# Altium schematic symbol library kmilo17pet-TI_RS232.SchLib: 1272 symbols (part 16 of 37)
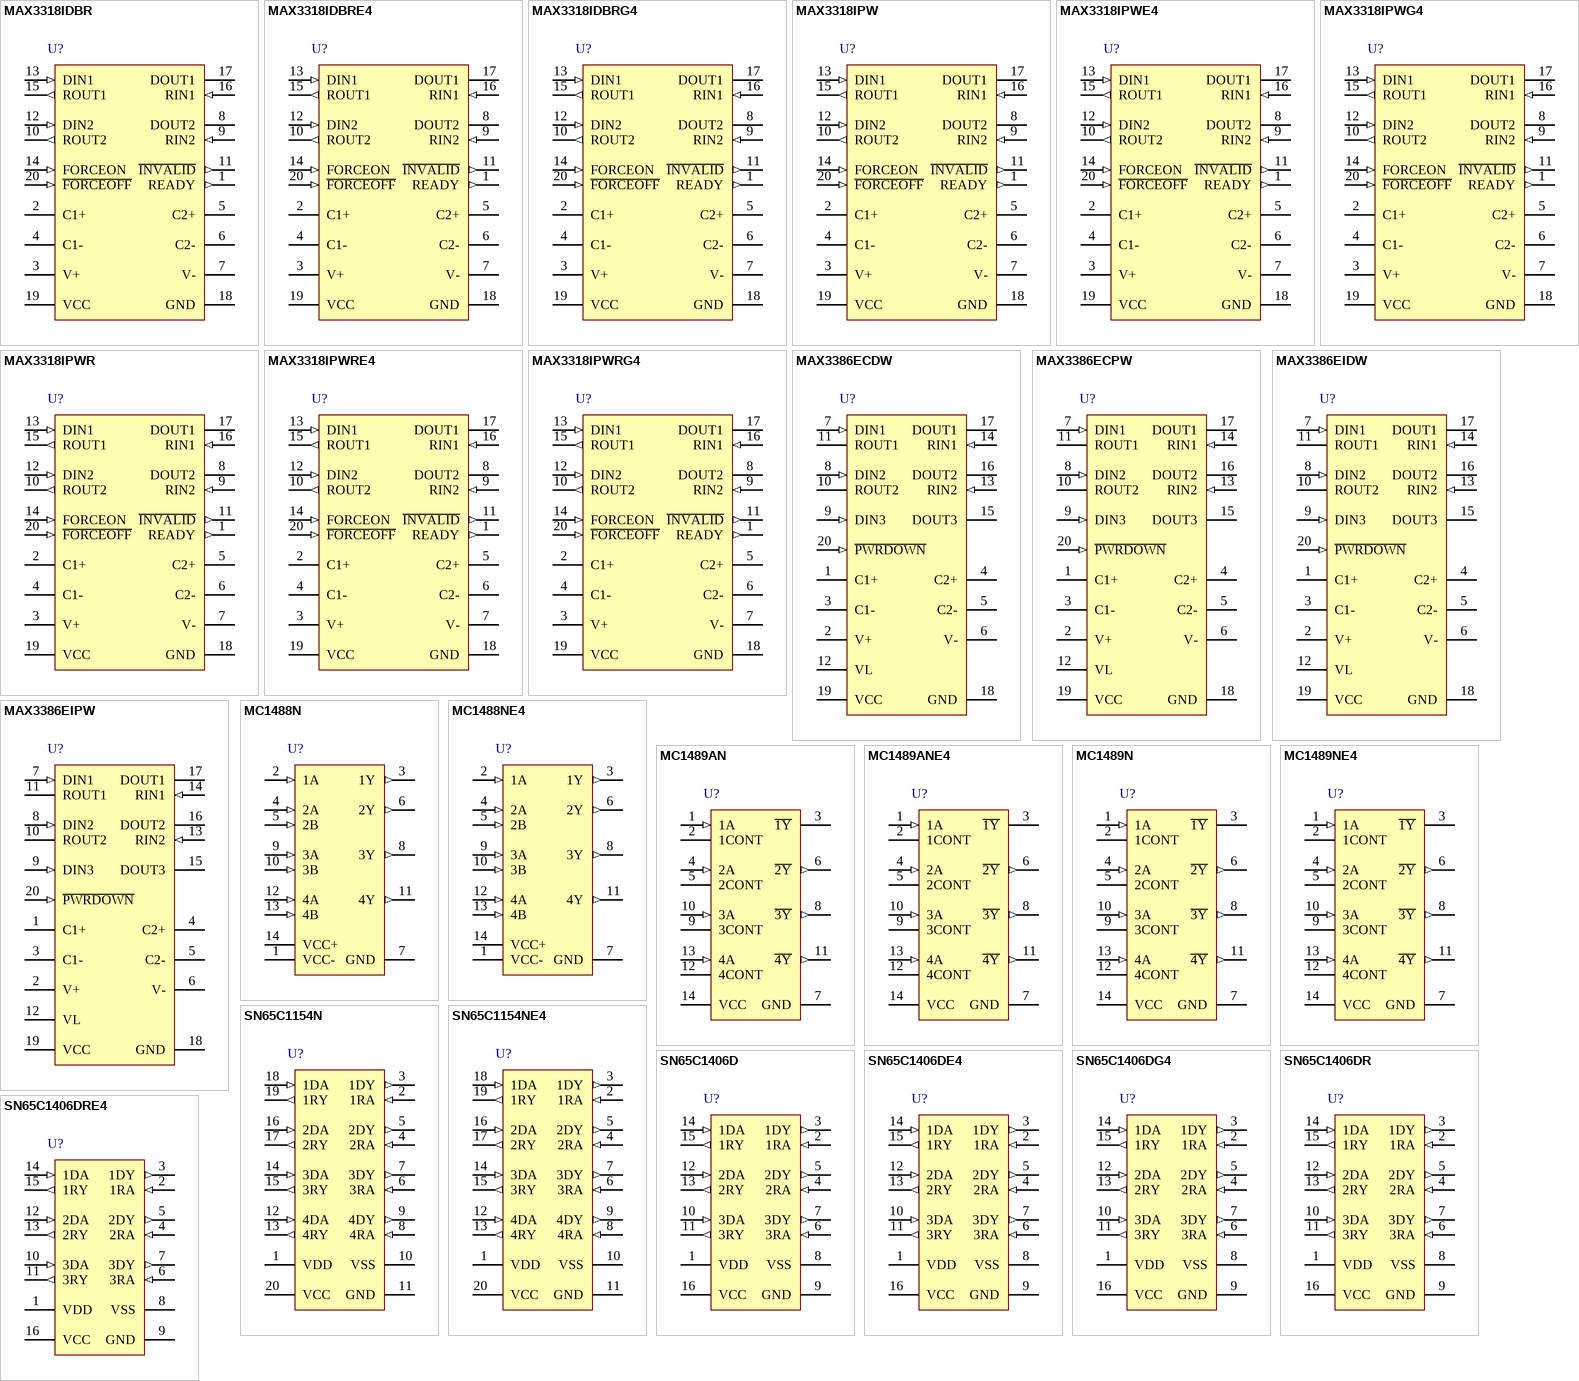
[diagram p69: symbols MAX3318IDBR to SN65C1406DRE4]

## MAX3318IDBRE4
designator U?
2.5-V 460-Kbps RS-232 Transceiver with ±15-kV ESD Protection, -40 to 85 degC, 20-Pin SSOP (DB), Green (RoHS & no Sb/Br); Drivers Per Package: 2; Supply Voltage(s)(V): 2.25 to 3.0; ESD HBM(kV): +/-15; Single Supply: TRUE; DatasheetVersion: SLLS687; PackageVersion: revE, Dec-2001; PackageReference: DB20; PackageDescription: 20-Pin Plastic Small Outline Package, 7.2 x 5.3 mm Body, 0.65 mm Pitch; SubFamily: RS-232; Receivers Per Package: 2; ICC(Max)(mA): 2; RS-232: TRUE; ComponentLink1Description: Manufacturer URL; ComponentLink1URL: www.ti.com; ComponentLink2Description: Datasheet; ComponentLink2URL: http://www.ti.com/general/docs/lit/getliterature.tsp?genericPartNumber=MAX3318&fileType=pdf; ComponentLink3Description: Package Specification; ComponentLink3URL: http://www.ti.com/litv/pdf/msso002e
footprint TI-DB20_N (SOP, 20-Leads, Body 7.2x5.3mm, Pitch 0.65mm, IPC Medium Density)
footprint TI-DB20_L (SOP, 20-Leads, Body 7.2x5.3mm, Pitch 0.65mm, IPC High Density)
footprint TI-DB20_M (SOP, 20-Leads, Body 7.2x5.3mm, Pitch 0.65mm, IPC Low Density)
pins: 1 READY (out), 2 C1+, 3 V+ (power), 4 C1-, 5 C2+, 6 C2-, 7 V- (power), 8 DOUT2 (hiz), 9 RIN2 (in), 10 ROUT2 (out), 11 ~{INVALID} (out), 12 DIN2 (in), 13 DIN1 (in), 14 FORCEON (in), 15 ROUT1 (out), 16 RIN1 (in), 17 DOUT1 (hiz), 18 GND (power), 19 VCC (power), 20 ~{FORCEOFF} (in)

## MAX3318IDBRG4
designator U?
2.5-V 460-Kbps RS-232 Transceiver with ±15-kV ESD Protection, -40 to 85 degC, 20-Pin SSOP (DB), Green (RoHS & no Sb/Br); Drivers Per Package: 2; Supply Voltage(s)(V): 2.25 to 3.0; ESD HBM(kV): +/-15; Single Supply: TRUE; DatasheetVersion: SLLS687; PackageVersion: revE, Dec-2001; PackageReference: DB20; PackageDescription: 20-Pin Plastic Small Outline Package, 7.2 x 5.3 mm Body, 0.65 mm Pitch; SubFamily: RS-232; Receivers Per Package: 2; ICC(Max)(mA): 2; RS-232: TRUE; ComponentLink1Description: Manufacturer URL; ComponentLink1URL: www.ti.com; ComponentLink2Description: Datasheet; ComponentLink2URL: http://www.ti.com/general/docs/lit/getliterature.tsp?genericPartNumber=MAX3318&fileType=pdf; ComponentLink3Description: Package Specification; ComponentLink3URL: http://www.ti.com/litv/pdf/msso002e
footprint TI-DB20_N (SOP, 20-Leads, Body 7.2x5.3mm, Pitch 0.65mm, IPC Medium Density)
footprint TI-DB20_L (SOP, 20-Leads, Body 7.2x5.3mm, Pitch 0.65mm, IPC High Density)
footprint TI-DB20_M (SOP, 20-Leads, Body 7.2x5.3mm, Pitch 0.65mm, IPC Low Density)
pins: 1 READY (out), 2 C1+, 3 V+ (power), 4 C1-, 5 C2+, 6 C2-, 7 V- (power), 8 DOUT2 (hiz), 9 RIN2 (in), 10 ROUT2 (out), 11 ~{INVALID} (out), 12 DIN2 (in), 13 DIN1 (in), 14 FORCEON (in), 15 ROUT1 (out), 16 RIN1 (in), 17 DOUT1 (hiz), 18 GND (power), 19 VCC (power), 20 ~{FORCEOFF} (in)

## MAX3318IPW
designator U?
2.5-V 460-Kbps RS-232 Transceiver with ±15-kV ESD Protection, -40 to 85 degC, 20-Pin TSSOP (PW), Green (RoHS & no Sb/Br); Drivers Per Package: 2; Supply Voltage(s)(V): 2.25 to 3.0; ESD HBM(kV): +/-15; Single Supply: TRUE; DatasheetVersion: SLLS687; PackageVersion: revG, Feb-2011; PackageReference: PW20; PackageDescription: 20-Pin Plastic Thin Small Outline Package 6.5 x 4.4 mm Body ,0.65 mm Pitch; SubFamily: RS-232; Receivers Per Package: 2; ICC(Max)(mA): 2; RS-232: TRUE; ComponentLink1Description: Manufacturer URL; ComponentLink1URL: www.ti.com; ComponentLink2Description: Datasheet; ComponentLink2URL: http://www.ti.com/general/docs/lit/getliterature.tsp?genericPartNumber=MAX3318&fileType=pdf; ComponentLink3Description: Package Specification; ComponentLink3URL: http://www.ti.com/litv/pdf/mpds362
footprint TI-PW20_N (TSOP, 20-Leads, Body 6.5x4.4mm, Pitch 0.65mm, IPC Medium Density)
footprint TI-PW20_L (TSOP, 20-Leads, Body 6.5x4.4mm, Pitch 0.65mm, IPC High Density)
footprint TI-PW20_M (TSOP, 20-Leads, Body 6.5x4.4mm, Pitch 0.65mm, IPC Low Density)
pins: 1 READY (out), 2 C1+, 3 V+ (power), 4 C1-, 5 C2+, 6 C2-, 7 V- (power), 8 DOUT2 (hiz), 9 RIN2 (in), 10 ROUT2 (out), 11 ~{INVALID} (out), 12 DIN2 (in), 13 DIN1 (in), 14 FORCEON (in), 15 ROUT1 (out), 16 RIN1 (in), 17 DOUT1 (hiz), 18 GND (power), 19 VCC (power), 20 ~{FORCEOFF} (in)

## MAX3318IPWE4
designator U?
2.5-V 460-Kbps RS-232 Transceiver with ±15-kV ESD Protection, -40 to 85 degC, 20-Pin TSSOP (PW), Green (RoHS & no Sb/Br); Drivers Per Package: 2; Supply Voltage(s)(V): 2.25 to 3.0; ESD HBM(kV): +/-15; Single Supply: TRUE; DatasheetVersion: SLLS687; PackageVersion: revG, Feb-2011; PackageReference: PW20; PackageDescription: 20-Pin Plastic Thin Small Outline Package 6.5 x 4.4 mm Body ,0.65 mm Pitch; SubFamily: RS-232; Receivers Per Package: 2; ICC(Max)(mA): 2; RS-232: TRUE; ComponentLink1Description: Manufacturer URL; ComponentLink1URL: www.ti.com; ComponentLink2Description: Datasheet; ComponentLink2URL: http://www.ti.com/general/docs/lit/getliterature.tsp?genericPartNumber=MAX3318&fileType=pdf; ComponentLink3Description: Package Specification; ComponentLink3URL: http://www.ti.com/litv/pdf/mpds362
footprint TI-PW20_N (TSOP, 20-Leads, Body 6.5x4.4mm, Pitch 0.65mm, IPC Medium Density)
footprint TI-PW20_L (TSOP, 20-Leads, Body 6.5x4.4mm, Pitch 0.65mm, IPC High Density)
footprint TI-PW20_M (TSOP, 20-Leads, Body 6.5x4.4mm, Pitch 0.65mm, IPC Low Density)
pins: 1 READY (out), 2 C1+, 3 V+ (power), 4 C1-, 5 C2+, 6 C2-, 7 V- (power), 8 DOUT2 (hiz), 9 RIN2 (in), 10 ROUT2 (out), 11 ~{INVALID} (out), 12 DIN2 (in), 13 DIN1 (in), 14 FORCEON (in), 15 ROUT1 (out), 16 RIN1 (in), 17 DOUT1 (hiz), 18 GND (power), 19 VCC (power), 20 ~{FORCEOFF} (in)

## MAX3318IPWG4
designator U?
2.5-V 460-Kbps RS-232 Transceiver with ±15-kV ESD Protection, -40 to 85 degC, 20-Pin TSSOP (PW), Green (RoHS & no Sb/Br); Drivers Per Package: 2; Supply Voltage(s)(V): 2.25 to 3.0; ESD HBM(kV): +/-15; Single Supply: TRUE; DatasheetVersion: SLLS687; PackageVersion: revG, Feb-2011; PackageReference: PW20; PackageDescription: 20-Pin Plastic Thin Small Outline Package 6.5 x 4.4 mm Body ,0.65 mm Pitch; SubFamily: RS-232; Receivers Per Package: 2; ICC(Max)(mA): 2; RS-232: TRUE; ComponentLink1Description: Manufacturer URL; ComponentLink1URL: www.ti.com; ComponentLink2Description: Datasheet; ComponentLink2URL: http://www.ti.com/general/docs/lit/getliterature.tsp?genericPartNumber=MAX3318&fileType=pdf; ComponentLink3Description: Package Specification; ComponentLink3URL: http://www.ti.com/litv/pdf/mpds362
footprint TI-PW20_N (TSOP, 20-Leads, Body 6.5x4.4mm, Pitch 0.65mm, IPC Medium Density)
footprint TI-PW20_L (TSOP, 20-Leads, Body 6.5x4.4mm, Pitch 0.65mm, IPC High Density)
footprint TI-PW20_M (TSOP, 20-Leads, Body 6.5x4.4mm, Pitch 0.65mm, IPC Low Density)
pins: 1 READY (out), 2 C1+, 3 V+ (power), 4 C1-, 5 C2+, 6 C2-, 7 V- (power), 8 DOUT2 (hiz), 9 RIN2 (in), 10 ROUT2 (out), 11 ~{INVALID} (out), 12 DIN2 (in), 13 DIN1 (in), 14 FORCEON (in), 15 ROUT1 (out), 16 RIN1 (in), 17 DOUT1 (hiz), 18 GND (power), 19 VCC (power), 20 ~{FORCEOFF} (in)

## MAX3318IPWR
designator U?
2.5-V 460-Kbps RS-232 Transceiver with ±15-kV ESD Protection, -40 to 85 degC, 20-Pin TSSOP (PW), Green (RoHS & no Sb/Br); Drivers Per Package: 2; Supply Voltage(s)(V): 2.25 to 3.0; ESD HBM(kV): +/-15; Single Supply: TRUE; DatasheetVersion: SLLS687; PackageVersion: revG, Feb-2011; PackageReference: PW20; PackageDescription: 20-Pin Plastic Thin Small Outline Package 6.5 x 4.4 mm Body ,0.65 mm Pitch; SubFamily: RS-232; Receivers Per Package: 2; ICC(Max)(mA): 2; RS-232: TRUE; ComponentLink1Description: Manufacturer URL; ComponentLink1URL: www.ti.com; ComponentLink2Description: Datasheet; ComponentLink2URL: http://www.ti.com/general/docs/lit/getliterature.tsp?genericPartNumber=MAX3318&fileType=pdf; ComponentLink3Description: Package Specification; ComponentLink3URL: http://www.ti.com/litv/pdf/mpds362
footprint TI-PW20_N (TSOP, 20-Leads, Body 6.5x4.4mm, Pitch 0.65mm, IPC Medium Density)
footprint TI-PW20_L (TSOP, 20-Leads, Body 6.5x4.4mm, Pitch 0.65mm, IPC High Density)
footprint TI-PW20_M (TSOP, 20-Leads, Body 6.5x4.4mm, Pitch 0.65mm, IPC Low Density)
pins: 1 READY (out), 2 C1+, 3 V+ (power), 4 C1-, 5 C2+, 6 C2-, 7 V- (power), 8 DOUT2 (hiz), 9 RIN2 (in), 10 ROUT2 (out), 11 ~{INVALID} (out), 12 DIN2 (in), 13 DIN1 (in), 14 FORCEON (in), 15 ROUT1 (out), 16 RIN1 (in), 17 DOUT1 (hiz), 18 GND (power), 19 VCC (power), 20 ~{FORCEOFF} (in)

## MAX3318IPWRE4
designator U?
2.5-V 460-Kbps RS-232 Transceiver with ±15-kV ESD Protection, -40 to 85 degC, 20-Pin TSSOP (PW), Green (RoHS & no Sb/Br); Drivers Per Package: 2; Supply Voltage(s)(V): 2.25 to 3.0; ESD HBM(kV): +/-15; Single Supply: TRUE; DatasheetVersion: SLLS687; PackageVersion: revG, Feb-2011; PackageReference: PW20; PackageDescription: 20-Pin Plastic Thin Small Outline Package 6.5 x 4.4 mm Body ,0.65 mm Pitch; SubFamily: RS-232; Receivers Per Package: 2; ICC(Max)(mA): 2; RS-232: TRUE; ComponentLink1Description: Manufacturer URL; ComponentLink1URL: www.ti.com; ComponentLink2Description: Datasheet; ComponentLink2URL: http://www.ti.com/general/docs/lit/getliterature.tsp?genericPartNumber=MAX3318&fileType=pdf; ComponentLink3Description: Package Specification; ComponentLink3URL: http://www.ti.com/litv/pdf/mpds362
footprint TI-PW20_N (TSOP, 20-Leads, Body 6.5x4.4mm, Pitch 0.65mm, IPC Medium Density)
footprint TI-PW20_L (TSOP, 20-Leads, Body 6.5x4.4mm, Pitch 0.65mm, IPC High Density)
footprint TI-PW20_M (TSOP, 20-Leads, Body 6.5x4.4mm, Pitch 0.65mm, IPC Low Density)
pins: 1 READY (out), 2 C1+, 3 V+ (power), 4 C1-, 5 C2+, 6 C2-, 7 V- (power), 8 DOUT2 (hiz), 9 RIN2 (in), 10 ROUT2 (out), 11 ~{INVALID} (out), 12 DIN2 (in), 13 DIN1 (in), 14 FORCEON (in), 15 ROUT1 (out), 16 RIN1 (in), 17 DOUT1 (hiz), 18 GND (power), 19 VCC (power), 20 ~{FORCEOFF} (in)

## MAX3318IPWRG4
designator U?
2.5-V 460-Kbps RS-232 Transceiver with ±15-kV ESD Protection, -40 to 85 degC, 20-Pin TSSOP (PW), Green (RoHS & no Sb/Br); Drivers Per Package: 2; Supply Voltage(s)(V): 2.25 to 3.0; ESD HBM(kV): +/-15; Single Supply: TRUE; DatasheetVersion: SLLS687; PackageVersion: revG, Feb-2011; PackageReference: PW20; PackageDescription: 20-Pin Plastic Thin Small Outline Package 6.5 x 4.4 mm Body ,0.65 mm Pitch; SubFamily: RS-232; Receivers Per Package: 2; ICC(Max)(mA): 2; RS-232: TRUE; ComponentLink1Description: Manufacturer URL; ComponentLink1URL: www.ti.com; ComponentLink2Description: Datasheet; ComponentLink2URL: http://www.ti.com/general/docs/lit/getliterature.tsp?genericPartNumber=MAX3318&fileType=pdf; ComponentLink3Description: Package Specification; ComponentLink3URL: http://www.ti.com/litv/pdf/mpds362
footprint TI-PW20_N (TSOP, 20-Leads, Body 6.5x4.4mm, Pitch 0.65mm, IPC Medium Density)
footprint TI-PW20_L (TSOP, 20-Leads, Body 6.5x4.4mm, Pitch 0.65mm, IPC High Density)
footprint TI-PW20_M (TSOP, 20-Leads, Body 6.5x4.4mm, Pitch 0.65mm, IPC Low Density)
pins: 1 READY (out), 2 C1+, 3 V+ (power), 4 C1-, 5 C2+, 6 C2-, 7 V- (power), 8 DOUT2 (hiz), 9 RIN2 (in), 10 ROUT2 (out), 11 ~{INVALID} (out), 12 DIN2 (in), 13 DIN1 (in), 14 FORCEON (in), 15 ROUT1 (out), 16 RIN1 (in), 17 DOUT1 (hiz), 18 GND (power), 19 VCC (power), 20 ~{FORCEOFF} (in)

## MAX3386ECDW
designator U?
RS-232 Transceiver with Split Supply Pin for Logic Side, 0 to 70 degC, 20-Pin SOIC (DW), Green (RoHS & no Sb/Br); Drivers Per Package: 3; Receivers Per Package: 2; Supply Voltage(s)(V): 3.3 or 5.0 & 2.5; ESD HBM(kV): +/-15; ICC(Max)(mA): 1; RS-232: TRUE; DatasheetVersion: SLLS659B; PackageVersion: revG, Jan-2011; PackageReference: DW20; PackageDescription: 20-Pin Plastic Small Outline Integrated Circuit, 12.8 x 7.5 mm, Pitch 1.27 mm Pitch; SubFamily: RS-232; IEC-61000-4-2 SUPPORT: TRUE; ComponentLink1Description: Manufacturer URL; ComponentLink1URL: www.ti.com; ComponentLink2Description: Datasheet; ComponentLink2URL: http://www.ti.com/general/docs/lit/getliterature.tsp?genericPartNumber=MAX3386E&fileType=pdf; ComponentLink3Description: Package Specification; ComponentLink3URL: http://www.ti.com/litv/pdf/mpds173a
footprint TI-DW20_N (SOIC, 20-Leads, Body 12.8x7.5mm, Pitch 1.27mm, IPC Medium Density)
footprint TI-DW20_L (SOIC, 20-Leads, Body 12.8x7.5mm, Pitch 1.27mm, IPC High Density)
footprint TI-DW20_M (SOIC, 20-Leads, Body 12.8x7.5mm, Pitch 1.27mm, IPC Low Density)
pins: 1 C1+ "Positive terminal of the voltage-doubler charge-pump capacitor", 2 V+ (power) "5.5-V supply generated by the charge pump", 3 C1- "Negative terminal of the voltage-doubler charge-pump capacitor", 4 C2+ "Positive terminal of the inverting charge-pump capacitor", 5 C2- "Negative terminal of the inverting charge-pump capacitor", 6 V- (power) "-5.5-V supply generated by the charge pump", 7 DIN1 (in) "Driver inputs", 8 DIN2 (in) "Driver inputs", 9 DIN3 (in) "Driver inputs", 10 ROUT2 (hiz) "Receiver outputs. Swing between 0 and VL", 11 ROUT1 (hiz) "Receiver outputs. Swing between 0 and VL", 12 VL (power) "Logic-level supply. All CMOS inputs and outputs are referenced to this supply.", 13 RIN2 (in) "RS-232 receiver inputs", 14 RIN1 (in) "RS-232 receiver inputs", 15 DOUT3 (hiz) "RS-232 driver outputs", 16 DOUT2 (hiz) "RS-232 driver outputs", 17 DOUT1 (hiz) "RS-232 driver outputs", 18 GND (power) "Ground", 19 VCC (power) "3-V to 5.5-V supply voltage", 20 ~{PWRDOWN} (in) "Powerdown input"

## MAX3386ECPW
designator U?
RS-232 Transceiver with Split Supply Pin for Logic Side, 0 to 70 degC, 20-Pin TSSOP (PW), Green (RoHS & no Sb/Br); Drivers Per Package: 3; Receivers Per Package: 2; Supply Voltage(s)(V): 3.3 or 5.0 & 2.5; ESD HBM(kV): +/-15; ICC(Max)(mA): 1; RS-232: TRUE; DatasheetVersion: SLLS659B; PackageVersion: revG, Feb-2011; PackageReference: PW20; PackageDescription: 20-Pin Plastic Thin Small Outline Package 6.5 x 4.4 mm Body ,0.65 mm Pitch; SubFamily: RS-232; IEC-61000-4-2 SUPPORT: TRUE; ComponentLink1Description: Manufacturer URL; ComponentLink1URL: www.ti.com; ComponentLink2Description: Datasheet; ComponentLink2URL: http://www.ti.com/general/docs/lit/getliterature.tsp?genericPartNumber=MAX3386E&fileType=pdf; ComponentLink3Description: Package Specification; ComponentLink3URL: http://www.ti.com/litv/pdf/mpds362
footprint TI-PW20_N (TSOP, 20-Leads, Body 6.5x4.4mm, Pitch 0.65mm, IPC Medium Density)
footprint TI-PW20_L (TSOP, 20-Leads, Body 6.5x4.4mm, Pitch 0.65mm, IPC High Density)
footprint TI-PW20_M (TSOP, 20-Leads, Body 6.5x4.4mm, Pitch 0.65mm, IPC Low Density)
pins: 1 C1+ "Positive terminal of the voltage-doubler charge-pump capacitor", 2 V+ (power) "5.5-V supply generated by the charge pump", 3 C1- "Negative terminal of the voltage-doubler charge-pump capacitor", 4 C2+ "Positive terminal of the inverting charge-pump capacitor", 5 C2- "Negative terminal of the inverting charge-pump capacitor", 6 V- (power) "-5.5-V supply generated by the charge pump", 7 DIN1 (in) "Driver inputs", 8 DIN2 (in) "Driver inputs", 9 DIN3 (in) "Driver inputs", 10 ROUT2 (hiz) "Receiver outputs. Swing between 0 and VL", 11 ROUT1 (hiz) "Receiver outputs. Swing between 0 and VL", 12 VL (power) "Logic-level supply. All CMOS inputs and outputs are referenced to this supply.", 13 RIN2 (in) "RS-232 receiver inputs", 14 RIN1 (in) "RS-232 receiver inputs", 15 DOUT3 (hiz) "RS-232 driver outputs", 16 DOUT2 (hiz) "RS-232 driver outputs", 17 DOUT1 (hiz) "RS-232 driver outputs", 18 GND (power) "Ground", 19 VCC (power) "3-V to 5.5-V supply voltage", 20 ~{PWRDOWN} (in) "Powerdown input. L = Powerdown H = Normal operation"

## MAX3386EIDW
designator U?
RS-232 Transceiver with Split Supply Pin for Logic Side, -40 to 85 degC, 20-Pin SOIC (DW), Green (RoHS & no Sb/Br); Drivers Per Package: 3; Receivers Per Package: 2; Supply Voltage(s)(V): 3.3 or 5.0 & 2.5; ESD HBM(kV): +/-15; ICC(Max)(mA): 1; RS-232: TRUE; DatasheetVersion: SLLS659B; PackageVersion: revG, Jan-2011; PackageReference: DW20; PackageDescription: 20-Pin Plastic Small Outline Integrated Circuit, 12.8 x 7.5 mm, Pitch 1.27 mm Pitch; SubFamily: RS-232; IEC-61000-4-2 SUPPORT: TRUE; ComponentLink1Description: Manufacturer URL; ComponentLink1URL: www.ti.com; ComponentLink2Description: Datasheet; ComponentLink2URL: http://www.ti.com/general/docs/lit/getliterature.tsp?genericPartNumber=MAX3386E&fileType=pdf; ComponentLink3Description: Package Specification; ComponentLink3URL: http://www.ti.com/litv/pdf/mpds173a
footprint TI-DW20_N (SOIC, 20-Leads, Body 12.8x7.5mm, Pitch 1.27mm, IPC Medium Density)
footprint TI-DW20_L (SOIC, 20-Leads, Body 12.8x7.5mm, Pitch 1.27mm, IPC High Density)
footprint TI-DW20_M (SOIC, 20-Leads, Body 12.8x7.5mm, Pitch 1.27mm, IPC Low Density)
pins: 1 C1+ "Positive terminal of the voltage-doubler charge-pump capacitor", 2 V+ (power) "5.5-V supply generated by the charge pump", 3 C1- "Negative terminal of the voltage-doubler charge-pump capacitor", 4 C2+ "Positive terminal of the inverting charge-pump capacitor", 5 C2- "Negative terminal of the inverting charge-pump capacitor", 6 V- (power) "-5.5-V supply generated by the charge pump", 7 DIN1 (in) "Driver inputs", 8 DIN2 (in) "Driver inputs", 9 DIN3 (in) "Driver inputs", 10 ROUT2 (hiz) "Receiver outputs. Swing between 0 and VL", 11 ROUT1 (hiz) "Receiver outputs. Swing between 0 and VL", 12 VL (power) "Logic-level supply. All CMOS inputs and outputs are referenced to this supply.", 13 RIN2 (in) "RS-232 receiver inputs", 14 RIN1 (in) "RS-232 receiver inputs", 15 DOUT3 (hiz) "RS-232 driver outputs", 16 DOUT2 (hiz) "RS-232 driver outputs", 17 DOUT1 (hiz) "RS-232 driver outputs", 18 GND (power) "Ground", 19 VCC (power) "3-V to 5.5-V supply voltage", 20 ~{PWRDOWN} (in) "Powerdown input"

## MAX3386EIPW
designator U?
RS-232 Transceiver with Split Supply Pin for Logic Side, -40 to 85 degC, 20-Pin TSSOP (PW), Green (RoHS & no Sb/Br); Drivers Per Package: 3; Receivers Per Package: 2; Supply Voltage(s)(V): 3.3 or 5.0 & 2.5; ESD HBM(kV): +/-15; ICC(Max)(mA): 1; RS-232: TRUE; DatasheetVersion: SLLS659B; PackageVersion: revG, Feb-2011; PackageReference: PW20; PackageDescription: 20-Pin Plastic Thin Small Outline Package 6.5 x 4.4 mm Body ,0.65 mm Pitch; SubFamily: RS-232; IEC-61000-4-2 SUPPORT: TRUE; ComponentLink1Description: Manufacturer URL; ComponentLink1URL: www.ti.com; ComponentLink2Description: Datasheet; ComponentLink2URL: http://www.ti.com/general/docs/lit/getliterature.tsp?genericPartNumber=MAX3386E&fileType=pdf; ComponentLink3Description: Package Specification; ComponentLink3URL: http://www.ti.com/litv/pdf/mpds362
footprint TI-PW20_N (TSOP, 20-Leads, Body 6.5x4.4mm, Pitch 0.65mm, IPC Medium Density)
footprint TI-PW20_L (TSOP, 20-Leads, Body 6.5x4.4mm, Pitch 0.65mm, IPC High Density)
footprint TI-PW20_M (TSOP, 20-Leads, Body 6.5x4.4mm, Pitch 0.65mm, IPC Low Density)
pins: 1 C1+ "Positive terminal of the voltage-doubler charge-pump capacitor", 2 V+ (power) "5.5-V supply generated by the charge pump", 3 C1- "Negative terminal of the voltage-doubler charge-pump capacitor", 4 C2+ "Positive terminal of the inverting charge-pump capacitor", 5 C2- "Negative terminal of the inverting charge-pump capacitor", 6 V- (power) "-5.5-V supply generated by the charge pump", 7 DIN1 (in) "Driver inputs", 8 DIN2 (in) "Driver inputs", 9 DIN3 (in) "Driver inputs", 10 ROUT2 (hiz) "Receiver outputs. Swing between 0 and VL", 11 ROUT1 (hiz) "Receiver outputs. Swing between 0 and VL", 12 VL (power) "Logic-level supply. All CMOS inputs and outputs are referenced to this supply.", 13 RIN2 (in) "RS-232 receiver inputs", 14 RIN1 (in) "RS-232 receiver inputs", 15 DOUT3 (hiz) "RS-232 driver outputs", 16 DOUT2 (hiz) "RS-232 driver outputs", 17 DOUT1 (hiz) "RS-232 driver outputs", 18 GND (power) "Ground", 19 VCC (power) "3-V to 5.5-V supply voltage", 20 ~{PWRDOWN} (in) "Powerdown input. L = Powerdown H = Normal operation"

## MC1488N
designator U?
Quadruple Line Driver, 0 to 70 degC, 14-Pin PDIP (N), Pb-Free (RoHS); SubFamily: RS-232; Drivers Per Package: 4; Supply Voltage(s)(V): +/-9.0; ICC(Max)(mA): +/-34; RS-232: TRUE; DatasheetVersion: SLLS094C; PackageVersion: revE, Dec-2002; PackageReference: N14; PackageDescription: 14-Pin Plastic Dual-In-Line Package, Row Spacing 7.62 mm, Pitch 2.54 mm; ComponentLink1Description: Manufacturer URL; ComponentLink1URL: www.ti.com; ComponentLink2Description: Datasheet; ComponentLink2URL: http://www.ti.com/general/docs/lit/getliterature.tsp?genericPartNumber=MC1488&fileType=pdf; ComponentLink3Description: Package Specification; ComponentLink3URL: http://www.ti.com/litv/pdf/mpdi002c
footprint TI-N14 (DIP, 14-Leads, Row Spacing 7.62mm, Pitch 2.54mm, Body 19.3x6.4mm)
pins: 1 VCC- (power), 2 1A (in), 3 1Y (out), 4 2A (in), 5 2B (in), 6 2Y (out), 7 GND (power), 8 3Y (out), 9 3A (in), 10 3B (in), 11 4Y (out), 12 4A (in), 13 4B (in), 14 VCC+ (power)

## MC1488NE4
designator U?
Quadruple Line Driver, 0 to 70 degC, 14-Pin PDIP (N), Pb-Free (RoHS); SubFamily: RS-232; Drivers Per Package: 4; Supply Voltage(s)(V): +/-9.0; ICC(Max)(mA): +/-34; RS-232: TRUE; DatasheetVersion: SLLS094C; PackageVersion: revE, Dec-2002; PackageReference: N14; PackageDescription: 14-Pin Plastic Dual-In-Line Package, Row Spacing 7.62 mm, Pitch 2.54 mm; ComponentLink1Description: Manufacturer URL; ComponentLink1URL: www.ti.com; ComponentLink2Description: Datasheet; ComponentLink2URL: http://www.ti.com/general/docs/lit/getliterature.tsp?genericPartNumber=MC1488&fileType=pdf; ComponentLink3Description: Package Specification; ComponentLink3URL: http://www.ti.com/litv/pdf/mpdi002c
footprint TI-N14 (DIP, 14-Leads, Row Spacing 7.62mm, Pitch 2.54mm, Body 19.3x6.4mm)
pins: 1 VCC- (power), 2 1A (in), 3 1Y (out), 4 2A (in), 5 2B (in), 6 2Y (out), 7 GND (power), 8 3Y (out), 9 3A (in), 10 3B (in), 11 4Y (out), 12 4A (in), 13 4B (in), 14 VCC+ (power)

## MC1489AN
designator U?
Quadruple Line Receiver, 0 to 70 degC, 14-Pin PDIP (N), Pb-Free (RoHS); SubFamily: RS-232; Receivers Per Package: 4; Supply Voltage(s)(V): 5; ICC(Max)(mA): 26; Single Supply: TRUE; DatasheetVersion: SLLS095D; PackageVersion: revE, Dec-2002; PackageReference: N14; PackageDescription: 14-Pin Plastic Dual-In-Line Package, Row Spacing 7.62 mm, Pitch 2.54 mm; RS-232: TRUE; ComponentLink1Description: Manufacturer URL; ComponentLink1URL: www.ti.com; ComponentLink2Description: Datasheet; ComponentLink2URL: http://www.ti.com/general/docs/lit/getliterature.tsp?genericPartNumber=MC1489A&fileType=pdf; ComponentLink3Description: Package Specification; ComponentLink3URL: http://www.ti.com/litv/pdf/mpdi002c
footprint TI-N14 (DIP, 14-Leads, Row Spacing 7.62mm, Pitch 2.54mm, Body 19.3x6.4mm)
pins: 1 1A (in), 2 1CONT, 3 ~{1Y} (oc), 4 2A (in), 5 2CONT, 6 ~{2Y} (out), 7 GND (power), 8 ~{3Y} (out), 9 3CONT, 10 3A (in), 11 ~{4Y} (out), 12 4CONT, 13 4A (in), 14 VCC (power)

## MC1489ANE4
designator U?
Quadruple Line Receiver, 0 to 70 degC, 14-Pin PDIP (N), Pb-Free (RoHS); SubFamily: RS-232; Receivers Per Package: 4; Supply Voltage(s)(V): 5; ICC(Max)(mA): 26; Single Supply: TRUE; DatasheetVersion: SLLS095D; PackageVersion: revE, Dec-2002; PackageReference: N14; PackageDescription: 14-Pin Plastic Dual-In-Line Package, Row Spacing 7.62 mm, Pitch 2.54 mm; RS-232: TRUE; ComponentLink1Description: Manufacturer URL; ComponentLink1URL: www.ti.com; ComponentLink2Description: Datasheet; ComponentLink2URL: http://www.ti.com/general/docs/lit/getliterature.tsp?genericPartNumber=MC1489A&fileType=pdf; ComponentLink3Description: Package Specification; ComponentLink3URL: http://www.ti.com/litv/pdf/mpdi002c
footprint TI-N14 (DIP, 14-Leads, Row Spacing 7.62mm, Pitch 2.54mm, Body 19.3x6.4mm)
pins: 1 1A (in), 2 1CONT, 3 ~{1Y} (oc), 4 2A (in), 5 2CONT, 6 ~{2Y} (out), 7 GND (power), 8 ~{3Y} (out), 9 3CONT, 10 3A (in), 11 ~{4Y} (out), 12 4CONT, 13 4A (in), 14 VCC (power)

## MC1489N
designator U?
Quadruple Line Receiver, 0 to 70 degC, 14-Pin PDIP (N), Pb-Free (RoHS); SubFamily: RS-232; Receivers Per Package: 4; Supply Voltage(s)(V): 5; ICC(Max)(mA): 26; Single Supply: TRUE; DatasheetVersion: SLLS095D; PackageVersion: revE, Dec-2002; PackageReference: N14; PackageDescription: 14-Pin Plastic Dual-In-Line Package, Row Spacing 7.62 mm, Pitch 2.54 mm; RS-232: TRUE; ComponentLink1Description: Manufacturer URL; ComponentLink1URL: www.ti.com; ComponentLink2Description: Datasheet; ComponentLink2URL: http://www.ti.com/general/docs/lit/getliterature.tsp?genericPartNumber=MC1489&fileType=pdf; ComponentLink3Description: Package Specification; ComponentLink3URL: http://www.ti.com/litv/pdf/mpdi002c
footprint TI-N14 (DIP, 14-Leads, Row Spacing 7.62mm, Pitch 2.54mm, Body 19.3x6.4mm)
pins: 1 1A (in), 2 1CONT, 3 ~{1Y} (oc), 4 2A (in), 5 2CONT, 6 ~{2Y} (out), 7 GND (power), 8 ~{3Y} (out), 9 3CONT, 10 3A (in), 11 ~{4Y} (out), 12 4CONT, 13 4A (in), 14 VCC (power)

## MC1489NE4
designator U?
Quadruple Line Receiver, 0 to 70 degC, 14-Pin PDIP (N), Pb-Free (RoHS); SubFamily: RS-232; Receivers Per Package: 4; Supply Voltage(s)(V): 5; ICC(Max)(mA): 26; Single Supply: TRUE; DatasheetVersion: SLLS095D; PackageVersion: revE, Dec-2002; PackageReference: N14; PackageDescription: 14-Pin Plastic Dual-In-Line Package, Row Spacing 7.62 mm, Pitch 2.54 mm; RS-232: TRUE; ComponentLink1Description: Manufacturer URL; ComponentLink1URL: www.ti.com; ComponentLink2Description: Datasheet; ComponentLink2URL: http://www.ti.com/general/docs/lit/getliterature.tsp?genericPartNumber=MC1489&fileType=pdf; ComponentLink3Description: Package Specification; ComponentLink3URL: http://www.ti.com/litv/pdf/mpdi002c
footprint TI-N14 (DIP, 14-Leads, Row Spacing 7.62mm, Pitch 2.54mm, Body 19.3x6.4mm)
pins: 1 1A (in), 2 1CONT, 3 ~{1Y} (oc), 4 2A (in), 5 2CONT, 6 ~{2Y} (out), 7 GND (power), 8 ~{3Y} (out), 9 3CONT, 10 3A (in), 11 ~{4Y} (out), 12 4CONT, 13 4A (in), 14 VCC (power)

## SN65C1154N
designator U?
Quadruple Low-Power Driver / Receiver, -40 to 85 degC, 20-Pin PDIP (N); SubFamily: RS-232; Drivers Per Package: 4; Supply Voltage(s)(V): +/-12.0 & 5.0; ICC(Max)(mA): +/-0.25 & 2.0; RS-232: TRUE; DatasheetVersion: SLLS151D; PackageVersion: revE, Dec-2002; PackageReference: N20; PackageDescription: 20-Pin Plastic Dual-In-Line Package, Row Spacing 7.62 mm, Pitch 2.54 mm; Receivers Per Package: 4; ComponentLink1Description: Manufacturer URL; ComponentLink1URL: www.ti.com; ComponentLink2Description: Datasheet; ComponentLink2URL: http://www.ti.com/general/docs/lit/getliterature.tsp?genericPartNumber=SN65C1154&fileType=pdf; ComponentLink3Description: Package Specification; ComponentLink3URL: http://www.ti.com/litv/pdf/mpdi002c
footprint TI-N20 (DIP, 20-Leads, Row Spacing 7.62mm, Pitch 2.54mm, Body 25.4x6.4mm)
pins: 1 VDD (power), 2 1RA (in), 3 1DY (out), 4 2RA (in), 5 2DY (out), 6 3RA (in), 7 3DY (out), 8 4RA (in), 9 4DY (out), 10 VSS (power), 11 GND (power), 12 4DA (in), 13 4RY (out), 14 3DA (in), 15 3RY (out), 16 2DA (in), 17 2RY (out), 18 1DA (in), 19 1RY (out), 20 VCC (power)

## SN65C1154NE4
designator U?
Quadruple Low-Power Driver / Receiver, -40 to 85 degC, 20-Pin PDIP (N); SubFamily: RS-232; Drivers Per Package: 4; Supply Voltage(s)(V): +/-12.0 & 5.0; ICC(Max)(mA): +/-0.25 & 2.0; RS-232: TRUE; DatasheetVersion: SLLS151D; PackageVersion: revE, Dec-2002; PackageReference: N20; PackageDescription: 20-Pin Plastic Dual-In-Line Package, Row Spacing 7.62 mm, Pitch 2.54 mm; Receivers Per Package: 4; ComponentLink1Description: Manufacturer URL; ComponentLink1URL: www.ti.com; ComponentLink2Description: Datasheet; ComponentLink2URL: http://www.ti.com/general/docs/lit/getliterature.tsp?genericPartNumber=SN65C1154&fileType=pdf; ComponentLink3Description: Package Specification; ComponentLink3URL: http://www.ti.com/litv/pdf/mpdi002c
footprint TI-N20 (DIP, 20-Leads, Row Spacing 7.62mm, Pitch 2.54mm, Body 25.4x6.4mm)
pins: 1 VDD (power), 2 1RA (in), 3 1DY (out), 4 2RA (in), 5 2DY (out), 6 3RA (in), 7 3DY (out), 8 4RA (in), 9 4DY (out), 10 VSS (power), 11 GND (power), 12 4DA (in), 13 4RY (out), 14 3DA (in), 15 3RY (out), 16 2DA (in), 17 2RY (out), 18 1DA (in), 19 1RY (out), 20 VCC (power)

## SN65C1406D
designator U?
Triple Low-Power Driver / Receiver, -40 to 85 degC, 16-Pin SOIC (D), Green (RoHS & no Sb/Br); SubFamily: RS-232; Drivers Per Package: 3; Supply Voltage(s)(V): +/-12.0 & 5.0; ICC(Max)(mA): +/-0.25 & 2.0; RS-232: TRUE; DatasheetVersion: SLLS148E; PackageVersion: revM, Jun-2011; PackageReference: D16; PackageDescription: 16-Pin Plastic Small Outline Integrated Circuit, 9.9 x 3.9 mm, Pitch 1.27 mm Pitch; Receivers Per Package: 3; ComponentLink1Description: Manufacturer URL; ComponentLink1URL: www.ti.com; ComponentLink2Description: Datasheet; ComponentLink2URL: http://www.ti.com/general/docs/lit/getliterature.tsp?genericPartNumber=SN65C1406&fileType=pdf; ComponentLink3Description: Package Specification; ComponentLink3URL: http://www.ti.com/litv/pdf/mpds178g
footprint TI-D16_N (SOIC, 16-Leads, Body 9.9x3.9mm, Pitch 1.27mm, IPC Medium Density)
footprint TI-D16_L (SOIC, 16-Leads, Body 9.9x3.9mm, Pitch 1.27mm, IPC High Density)
footprint TI-D16_M (SOIC, 16-Leads, Body 9.9x3.9mm, Pitch 1.27mm, IPC Low Density)
pins: 1 VDD (power), 2 1RA (in), 3 1DY (out), 4 2RA (in), 5 2DY (out), 6 3RA (in), 7 3DY (out), 8 VSS (power), 9 GND (power), 10 3DA (in), 11 3RY (out), 12 2DA (in), 13 2RY (out), 14 1DA (in), 15 1RY (out), 16 VCC (power)

## SN65C1406DE4
designator U?
Triple Low-Power Driver / Receiver, -40 to 85 degC, 16-Pin SOIC (D), Green (RoHS & no Sb/Br); SubFamily: RS-232; Drivers Per Package: 3; Supply Voltage(s)(V): +/-12.0 & 5.0; ICC(Max)(mA): +/-0.25 & 2.0; RS-232: TRUE; DatasheetVersion: SLLS148E; PackageVersion: revM, Jun-2011; PackageReference: D16; PackageDescription: 16-Pin Plastic Small Outline Integrated Circuit, 9.9 x 3.9 mm, Pitch 1.27 mm Pitch; Receivers Per Package: 3; ComponentLink1Description: Manufacturer URL; ComponentLink1URL: www.ti.com; ComponentLink2Description: Datasheet; ComponentLink2URL: http://www.ti.com/general/docs/lit/getliterature.tsp?genericPartNumber=SN65C1406&fileType=pdf; ComponentLink3Description: Package Specification; ComponentLink3URL: http://www.ti.com/litv/pdf/mpds178g
footprint TI-D16_N (SOIC, 16-Leads, Body 9.9x3.9mm, Pitch 1.27mm, IPC Medium Density)
footprint TI-D16_L (SOIC, 16-Leads, Body 9.9x3.9mm, Pitch 1.27mm, IPC High Density)
footprint TI-D16_M (SOIC, 16-Leads, Body 9.9x3.9mm, Pitch 1.27mm, IPC Low Density)
pins: 1 VDD (power), 2 1RA (in), 3 1DY (out), 4 2RA (in), 5 2DY (out), 6 3RA (in), 7 3DY (out), 8 VSS (power), 9 GND (power), 10 3DA (in), 11 3RY (out), 12 2DA (in), 13 2RY (out), 14 1DA (in), 15 1RY (out), 16 VCC (power)

## SN65C1406DG4
designator U?
Triple Low-Power Driver / Receiver, -40 to 85 degC, 16-Pin SOIC (D), Green (RoHS & no Sb/Br); SubFamily: RS-232; Drivers Per Package: 3; Supply Voltage(s)(V): +/-12.0 & 5.0; ICC(Max)(mA): +/-0.25 & 2.0; RS-232: TRUE; DatasheetVersion: SLLS148E; PackageVersion: revM, Jun-2011; PackageReference: D16; PackageDescription: 16-Pin Plastic Small Outline Integrated Circuit, 9.9 x 3.9 mm, Pitch 1.27 mm Pitch; Receivers Per Package: 3; ComponentLink1Description: Manufacturer URL; ComponentLink1URL: www.ti.com; ComponentLink2Description: Datasheet; ComponentLink2URL: http://www.ti.com/general/docs/lit/getliterature.tsp?genericPartNumber=SN65C1406&fileType=pdf; ComponentLink3Description: Package Specification; ComponentLink3URL: http://www.ti.com/litv/pdf/mpds178g
footprint TI-D16_N (SOIC, 16-Leads, Body 9.9x3.9mm, Pitch 1.27mm, IPC Medium Density)
footprint TI-D16_L (SOIC, 16-Leads, Body 9.9x3.9mm, Pitch 1.27mm, IPC High Density)
footprint TI-D16_M (SOIC, 16-Leads, Body 9.9x3.9mm, Pitch 1.27mm, IPC Low Density)
pins: 1 VDD (power), 2 1RA (in), 3 1DY (out), 4 2RA (in), 5 2DY (out), 6 3RA (in), 7 3DY (out), 8 VSS (power), 9 GND (power), 10 3DA (in), 11 3RY (out), 12 2DA (in), 13 2RY (out), 14 1DA (in), 15 1RY (out), 16 VCC (power)

## SN65C1406DR
designator U?
Triple Low-Power Driver / Receiver, -40 to 85 degC, 16-Pin SOIC (D), Green (RoHS & no Sb/Br); SubFamily: RS-232; Drivers Per Package: 3; Supply Voltage(s)(V): +/-12.0 & 5.0; ICC(Max)(mA): +/-0.25 & 2.0; RS-232: TRUE; DatasheetVersion: SLLS148E; PackageVersion: revM, Jun-2011; PackageReference: D16; PackageDescription: 16-Pin Plastic Small Outline Integrated Circuit, 9.9 x 3.9 mm, Pitch 1.27 mm Pitch; Receivers Per Package: 3; ComponentLink1Description: Manufacturer URL; ComponentLink1URL: www.ti.com; ComponentLink2Description: Datasheet; ComponentLink2URL: http://www.ti.com/general/docs/lit/getliterature.tsp?genericPartNumber=SN65C1406&fileType=pdf; ComponentLink3Description: Package Specification; ComponentLink3URL: http://www.ti.com/litv/pdf/mpds178g
footprint TI-D16_N (SOIC, 16-Leads, Body 9.9x3.9mm, Pitch 1.27mm, IPC Medium Density)
footprint TI-D16_L (SOIC, 16-Leads, Body 9.9x3.9mm, Pitch 1.27mm, IPC High Density)
footprint TI-D16_M (SOIC, 16-Leads, Body 9.9x3.9mm, Pitch 1.27mm, IPC Low Density)
pins: 1 VDD (power), 2 1RA (in), 3 1DY (out), 4 2RA (in), 5 2DY (out), 6 3RA (in), 7 3DY (out), 8 VSS (power), 9 GND (power), 10 3DA (in), 11 3RY (out), 12 2DA (in), 13 2RY (out), 14 1DA (in), 15 1RY (out), 16 VCC (power)

## SN65C1406DRE4
designator U?
Triple Low-Power Driver / Receiver, -40 to 85 degC, 16-Pin SOIC (D), Green (RoHS & no Sb/Br); SubFamily: RS-232; Drivers Per Package: 3; Supply Voltage(s)(V): +/-12.0 & 5.0; ICC(Max)(mA): +/-0.25 & 2.0; RS-232: TRUE; DatasheetVersion: SLLS148E; PackageVersion: revM, Jun-2011; PackageReference: D16; PackageDescription: 16-Pin Plastic Small Outline Integrated Circuit, 9.9 x 3.9 mm, Pitch 1.27 mm Pitch; Receivers Per Package: 3; ComponentLink1Description: Manufacturer URL; ComponentLink1URL: www.ti.com; ComponentLink2Description: Datasheet; ComponentLink2URL: http://www.ti.com/general/docs/lit/getliterature.tsp?genericPartNumber=SN65C1406&fileType=pdf; ComponentLink3Description: Package Specification; ComponentLink3URL: http://www.ti.com/litv/pdf/mpds178g
footprint TI-D16_N (SOIC, 16-Leads, Body 9.9x3.9mm, Pitch 1.27mm, IPC Medium Density)
footprint TI-D16_L (SOIC, 16-Leads, Body 9.9x3.9mm, Pitch 1.27mm, IPC High Density)
footprint TI-D16_M (SOIC, 16-Leads, Body 9.9x3.9mm, Pitch 1.27mm, IPC Low Density)
pins: 1 VDD (power), 2 1RA (in), 3 1DY (out), 4 2RA (in), 5 2DY (out), 6 3RA (in), 7 3DY (out), 8 VSS (power), 9 GND (power), 10 3DA (in), 11 3RY (out), 12 2DA (in), 13 2RY (out), 14 1DA (in), 15 1RY (out), 16 VCC (power)

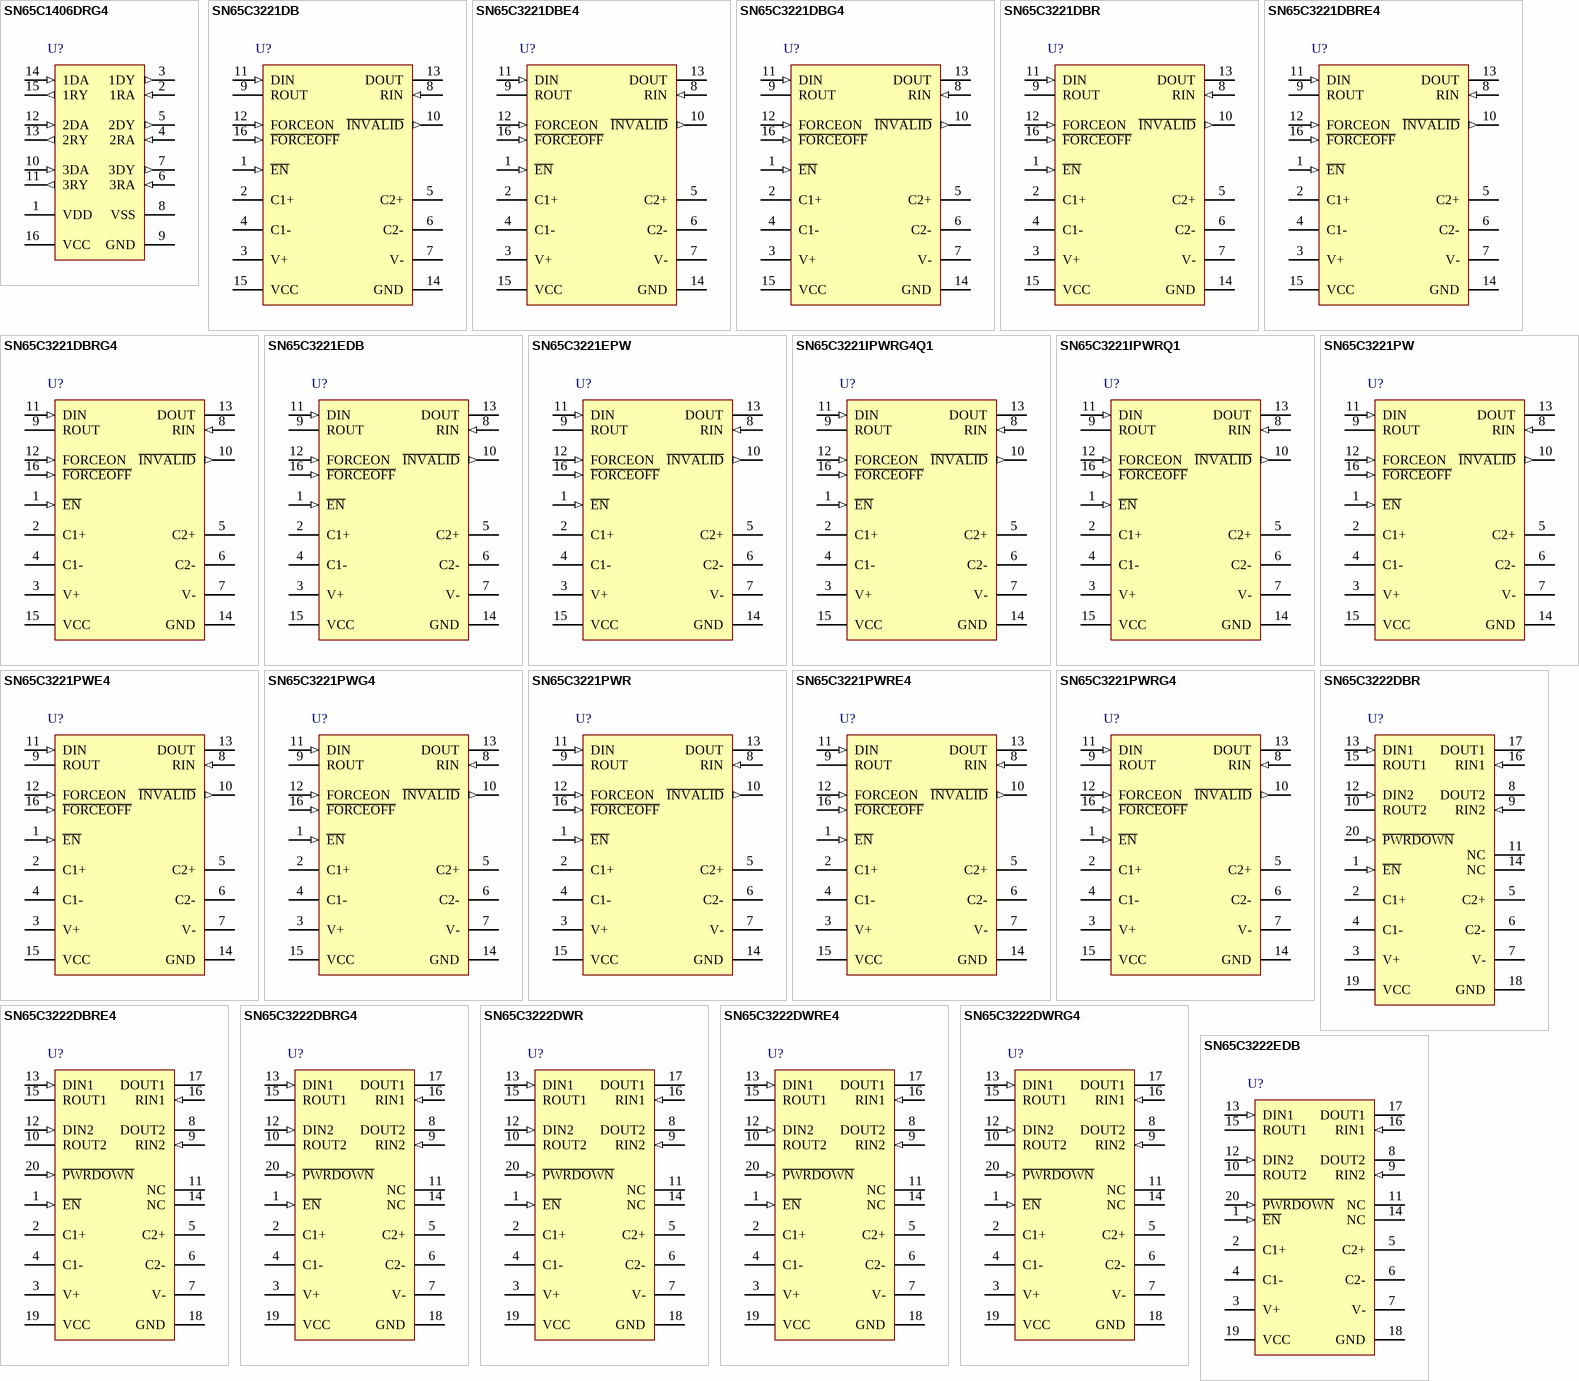
[diagram p23: symbols SN65C1406DRG4 to SN65C3222EDB]

## SN65C1406DRG4
designator U?
Triple Low-Power Driver / Receiver, -40 to 85 degC, 16-Pin SOIC (D), Green (RoHS & no Sb/Br); SubFamily: RS-232; Drivers Per Package: 3; Supply Voltage(s)(V): +/-12.0 & 5.0; ICC(Max)(mA): +/-0.25 & 2.0; RS-232: TRUE; DatasheetVersion: SLLS148E; PackageVersion: revM, Jun-2011; PackageReference: D16; PackageDescription: 16-Pin Plastic Small Outline Integrated Circuit, 9.9 x 3.9 mm, Pitch 1.27 mm Pitch; Receivers Per Package: 3; ComponentLink1Description: Manufacturer URL; ComponentLink1URL: www.ti.com; ComponentLink2Description: Datasheet; ComponentLink2URL: http://www.ti.com/general/docs/lit/getliterature.tsp?genericPartNumber=SN65C1406&fileType=pdf; ComponentLink3Description: Package Specification; ComponentLink3URL: http://www.ti.com/litv/pdf/mpds178g
footprint TI-D16_N (SOIC, 16-Leads, Body 9.9x3.9mm, Pitch 1.27mm, IPC Medium Density)
footprint TI-D16_L (SOIC, 16-Leads, Body 9.9x3.9mm, Pitch 1.27mm, IPC High Density)
footprint TI-D16_M (SOIC, 16-Leads, Body 9.9x3.9mm, Pitch 1.27mm, IPC Low Density)
pins: 1 VDD (power), 2 1RA (in), 3 1DY (out), 4 2RA (in), 5 2DY (out), 6 3RA (in), 7 3DY (out), 8 VSS (power), 9 GND (power), 10 3DA (in), 11 3RY (out), 12 2DA (in), 13 2RY (out), 14 1DA (in), 15 1RY (out), 16 VCC (power)

## SN65C3221DB
designator U?
3-V to 5.5-V Single-Channel RS-232 Compatible Line Driver / Receiver, -40 to 85 degC, 16-Pin SSOP (DB), Green (RoHS & no Sb/Br); Drivers Per Package: 1; Supply Voltage(s)(V): 3.3 or 5.0; ESD HBM(kV): +/-15; Single Supply: TRUE; DatasheetVersion: SLLS351E; PackageVersion: revE, Dec-2001; PackageReference: DB16; PackageDescription: 16-Pin Plastic Small Outline Package, 6.2 x 5.3 mm Body, 0.65 mm Pitch; SubFamily: RS-232; Receivers Per Package: 1; ICC(Max)(mA): 1; RS-232: TRUE; ComponentLink1Description: Manufacturer URL; ComponentLink1URL: www.ti.com; ComponentLink2Description: Datasheet; ComponentLink2URL: http://www.ti.com/general/docs/lit/getliterature.tsp?genericPartNumber=SN65C3221&fileType=pdf; ComponentLink3Description: Package Specification; ComponentLink3URL: http://www.ti.com/litv/pdf/msso002e
footprint TI-DB16_N (SOP, 16-Leads, Body 6.2x5.3mm, Pitch 0.65mm, IPC Medium Density)
footprint TI-DB16_L (SOP, 16-Leads, Body 6.2x5.3mm, Pitch 0.65mm, IPC High Density)
footprint TI-DB16_M (SOP, 16-Leads, Body 6.2x5.3mm, Pitch 0.65mm, IPC Low Density)
pins: 1 ~{EN} (in), 2 C1+, 3 V+ (power), 4 C1-, 5 C2+, 6 C2-, 7 V- (power), 8 RIN (in), 9 ROUT (hiz), 10 ~{INVALID} (out), 11 DIN (in), 12 FORCEON (in), 13 DOUT (hiz), 14 GND (power), 15 VCC (power), 16 ~{FORCEOFF} (in)

## SN65C3221DBE4
designator U?
3-V to 5.5-V Single-Channel RS-232 Compatible Line Driver / Receiver, -40 to 85 degC, 16-Pin SSOP (DB), Green (RoHS & no Sb/Br); Drivers Per Package: 1; Supply Voltage(s)(V): 3.3 or 5.0; ESD HBM(kV): +/-15; Single Supply: TRUE; DatasheetVersion: SLLS351E; PackageVersion: revE, Dec-2001; PackageReference: DB16; PackageDescription: 16-Pin Plastic Small Outline Package, 6.2 x 5.3 mm Body, 0.65 mm Pitch; SubFamily: RS-232; Receivers Per Package: 1; ICC(Max)(mA): 1; RS-232: TRUE; ComponentLink1Description: Manufacturer URL; ComponentLink1URL: www.ti.com; ComponentLink2Description: Datasheet; ComponentLink2URL: http://www.ti.com/general/docs/lit/getliterature.tsp?genericPartNumber=SN65C3221&fileType=pdf; ComponentLink3Description: Package Specification; ComponentLink3URL: http://www.ti.com/litv/pdf/msso002e
footprint TI-DB16_N (SOP, 16-Leads, Body 6.2x5.3mm, Pitch 0.65mm, IPC Medium Density)
footprint TI-DB16_L (SOP, 16-Leads, Body 6.2x5.3mm, Pitch 0.65mm, IPC High Density)
footprint TI-DB16_M (SOP, 16-Leads, Body 6.2x5.3mm, Pitch 0.65mm, IPC Low Density)
pins: 1 ~{EN} (in), 2 C1+, 3 V+ (power), 4 C1-, 5 C2+, 6 C2-, 7 V- (power), 8 RIN (in), 9 ROUT (hiz), 10 ~{INVALID} (out), 11 DIN (in), 12 FORCEON (in), 13 DOUT (hiz), 14 GND (power), 15 VCC (power), 16 ~{FORCEOFF} (in)

## SN65C3221DBG4
designator U?
3-V to 5.5-V Single-Channel RS-232 Compatible Line Driver / Receiver, -40 to 85 degC, 16-Pin SSOP (DB), Green (RoHS & no Sb/Br); Drivers Per Package: 1; Supply Voltage(s)(V): 3.3 or 5.0; ESD HBM(kV): +/-15; Single Supply: TRUE; DatasheetVersion: SLLS351E; PackageVersion: revE, Dec-2001; PackageReference: DB16; PackageDescription: 16-Pin Plastic Small Outline Package, 6.2 x 5.3 mm Body, 0.65 mm Pitch; SubFamily: RS-232; Receivers Per Package: 1; ICC(Max)(mA): 1; RS-232: TRUE; ComponentLink1Description: Manufacturer URL; ComponentLink1URL: www.ti.com; ComponentLink2Description: Datasheet; ComponentLink2URL: http://www.ti.com/general/docs/lit/getliterature.tsp?genericPartNumber=SN65C3221&fileType=pdf; ComponentLink3Description: Package Specification; ComponentLink3URL: http://www.ti.com/litv/pdf/msso002e
footprint TI-DB16_N (SOP, 16-Leads, Body 6.2x5.3mm, Pitch 0.65mm, IPC Medium Density)
footprint TI-DB16_L (SOP, 16-Leads, Body 6.2x5.3mm, Pitch 0.65mm, IPC High Density)
footprint TI-DB16_M (SOP, 16-Leads, Body 6.2x5.3mm, Pitch 0.65mm, IPC Low Density)
pins: 1 ~{EN} (in), 2 C1+, 3 V+ (power), 4 C1-, 5 C2+, 6 C2-, 7 V- (power), 8 RIN (in), 9 ROUT (hiz), 10 ~{INVALID} (out), 11 DIN (in), 12 FORCEON (in), 13 DOUT (hiz), 14 GND (power), 15 VCC (power), 16 ~{FORCEOFF} (in)

## SN65C3221DBR
designator U?
3-V to 5.5-V Single-Channel RS-232 Compatible Line Driver / Receiver, -40 to 85 degC, 16-Pin SSOP (DB), Green (RoHS & no Sb/Br); Drivers Per Package: 1; Supply Voltage(s)(V): 3.3 or 5.0; ESD HBM(kV): +/-15; Single Supply: TRUE; DatasheetVersion: SLLS351E; PackageVersion: revE, Dec-2001; PackageReference: DB16; PackageDescription: 16-Pin Plastic Small Outline Package, 6.2 x 5.3 mm Body, 0.65 mm Pitch; SubFamily: RS-232; Receivers Per Package: 1; ICC(Max)(mA): 1; RS-232: TRUE; ComponentLink1Description: Manufacturer URL; ComponentLink1URL: www.ti.com; ComponentLink2Description: Datasheet; ComponentLink2URL: http://www.ti.com/general/docs/lit/getliterature.tsp?genericPartNumber=SN65C3221&fileType=pdf; ComponentLink3Description: Package Specification; ComponentLink3URL: http://www.ti.com/litv/pdf/msso002e
footprint TI-DB16_N (SOP, 16-Leads, Body 6.2x5.3mm, Pitch 0.65mm, IPC Medium Density)
footprint TI-DB16_L (SOP, 16-Leads, Body 6.2x5.3mm, Pitch 0.65mm, IPC High Density)
footprint TI-DB16_M (SOP, 16-Leads, Body 6.2x5.3mm, Pitch 0.65mm, IPC Low Density)
pins: 1 ~{EN} (in), 2 C1+, 3 V+ (power), 4 C1-, 5 C2+, 6 C2-, 7 V- (power), 8 RIN (in), 9 ROUT (hiz), 10 ~{INVALID} (out), 11 DIN (in), 12 FORCEON (in), 13 DOUT (hiz), 14 GND (power), 15 VCC (power), 16 ~{FORCEOFF} (in)

## SN65C3221DBRE4
designator U?
3-V to 5.5-V Single-Channel RS-232 Compatible Line Driver / Receiver, -40 to 85 degC, 16-Pin SSOP (DB), Green (RoHS & no Sb/Br); Drivers Per Package: 1; Supply Voltage(s)(V): 3.3 or 5.0; ESD HBM(kV): +/-15; Single Supply: TRUE; DatasheetVersion: SLLS351E; PackageVersion: revE, Dec-2001; PackageReference: DB16; PackageDescription: 16-Pin Plastic Small Outline Package, 6.2 x 5.3 mm Body, 0.65 mm Pitch; SubFamily: RS-232; Receivers Per Package: 1; ICC(Max)(mA): 1; RS-232: TRUE; ComponentLink1Description: Manufacturer URL; ComponentLink1URL: www.ti.com; ComponentLink2Description: Datasheet; ComponentLink2URL: http://www.ti.com/general/docs/lit/getliterature.tsp?genericPartNumber=SN65C3221&fileType=pdf; ComponentLink3Description: Package Specification; ComponentLink3URL: http://www.ti.com/litv/pdf/msso002e
footprint TI-DB16_N (SOP, 16-Leads, Body 6.2x5.3mm, Pitch 0.65mm, IPC Medium Density)
footprint TI-DB16_L (SOP, 16-Leads, Body 6.2x5.3mm, Pitch 0.65mm, IPC High Density)
footprint TI-DB16_M (SOP, 16-Leads, Body 6.2x5.3mm, Pitch 0.65mm, IPC Low Density)
pins: 1 ~{EN} (in), 2 C1+, 3 V+ (power), 4 C1-, 5 C2+, 6 C2-, 7 V- (power), 8 RIN (in), 9 ROUT (hiz), 10 ~{INVALID} (out), 11 DIN (in), 12 FORCEON (in), 13 DOUT (hiz), 14 GND (power), 15 VCC (power), 16 ~{FORCEOFF} (in)

## SN65C3221DBRG4
designator U?
3-V to 5.5-V Single-Channel RS-232 Compatible Line Driver / Receiver, -40 to 85 degC, 16-Pin SSOP (DB), Green (RoHS & no Sb/Br); Drivers Per Package: 1; Supply Voltage(s)(V): 3.3 or 5.0; ESD HBM(kV): +/-15; Single Supply: TRUE; DatasheetVersion: SLLS351E; PackageVersion: revE, Dec-2001; PackageReference: DB16; PackageDescription: 16-Pin Plastic Small Outline Package, 6.2 x 5.3 mm Body, 0.65 mm Pitch; SubFamily: RS-232; Receivers Per Package: 1; ICC(Max)(mA): 1; RS-232: TRUE; ComponentLink1Description: Manufacturer URL; ComponentLink1URL: www.ti.com; ComponentLink2Description: Datasheet; ComponentLink2URL: http://www.ti.com/general/docs/lit/getliterature.tsp?genericPartNumber=SN65C3221&fileType=pdf; ComponentLink3Description: Package Specification; ComponentLink3URL: http://www.ti.com/litv/pdf/msso002e
footprint TI-DB16_N (SOP, 16-Leads, Body 6.2x5.3mm, Pitch 0.65mm, IPC Medium Density)
footprint TI-DB16_L (SOP, 16-Leads, Body 6.2x5.3mm, Pitch 0.65mm, IPC High Density)
footprint TI-DB16_M (SOP, 16-Leads, Body 6.2x5.3mm, Pitch 0.65mm, IPC Low Density)
pins: 1 ~{EN} (in), 2 C1+, 3 V+ (power), 4 C1-, 5 C2+, 6 C2-, 7 V- (power), 8 RIN (in), 9 ROUT (hiz), 10 ~{INVALID} (out), 11 DIN (in), 12 FORCEON (in), 13 DOUT (hiz), 14 GND (power), 15 VCC (power), 16 ~{FORCEOFF} (in)

## SN65C3221EDB
designator U?
3-V to 5.5-V Single-Channel RS-232 1-Mbit/s Line Driver / Receiver with ±15-kV IEC ESD Protection, -40 to 85 degC, 16-Pin SSOP (DB), Green (RoHS & no Sb/Br); Drivers Per Package: 1; Supply Voltage(s)(V): 3.3 or 5.0; ESD HBM(kV): +/-15; Single Supply: TRUE; DatasheetVersion: SLLS694B; PackageVersion: revE, Dec-2001; PackageReference: DB16; PackageDescription: 16-Pin Plastic Small Outline Package, 6.2 x 5.3 mm Body, 0.65 mm Pitch; SubFamily: RS-232; Receivers Per Package: 1; ICC(Max)(mA): 1; RS-232: TRUE; IEC-61000-4-2 SUPPORT: TRUE; ComponentLink1Description: Manufacturer URL; ComponentLink1URL: www.ti.com; ComponentLink2Description: Datasheet; ComponentLink2URL: http://www.ti.com/general/docs/lit/getliterature.tsp?genericPartNumber=SN65C3221E&fileType=pdf; ComponentLink3Description: Package Specification; ComponentLink3URL: http://www.ti.com/litv/pdf/msso002e
footprint TI-DB16_N (SOP, 16-Leads, Body 6.2x5.3mm, Pitch 0.65mm, IPC Medium Density)
footprint TI-DB16_L (SOP, 16-Leads, Body 6.2x5.3mm, Pitch 0.65mm, IPC High Density)
footprint TI-DB16_M (SOP, 16-Leads, Body 6.2x5.3mm, Pitch 0.65mm, IPC Low Density)
pins: 1 ~{EN} (in), 2 C1+, 3 V+ (power), 4 C1-, 5 C2+, 6 C2-, 7 V- (power), 8 RIN (in), 9 ROUT (hiz), 10 ~{INVALID} (out), 11 DIN (in), 12 FORCEON (in), 13 DOUT (hiz), 14 GND (power), 15 VCC (power), 16 ~{FORCEOFF} (in)

## SN65C3221EPW
designator U?
3-V to 5.5-V Single-Channel RS-232 1-Mbit/s Line Driver / Receiver with ±15-kV IEC ESD Protection, -40 to 85 degC, 16-Pin SSOP (DB), Green (RoHS & no Sb/Br); Drivers Per Package: 1; Supply Voltage(s)(V): 3.3 or 5.0; ESD HBM(kV): +/-15; Single Supply: TRUE; DatasheetVersion: SLLS694B; PackageVersion: revG, Feb-2011; PackageReference: PW16; PackageDescription: 16-Pin Plastic Thin Small Outline Package 5 x 4.4 mm Body ,0.65 mm Pitch; SubFamily: RS-232; Receivers Per Package: 1; ICC(Max)(mA): 1; RS-232: TRUE; IEC-61000-4-2 SUPPORT: TRUE; ComponentLink1Description: Manufacturer URL; ComponentLink1URL: www.ti.com; ComponentLink2Description: Datasheet; ComponentLink2URL: http://www.ti.com/general/docs/lit/getliterature.tsp?genericPartNumber=SN65C3221E&fileType=pdf; ComponentLink3Description: Package Specification; ComponentLink3URL: http://www.ti.com/litv/pdf/mpds361
footprint TI-PW16_N (TSOP, 16-Leads, Body 5x4.4mm, Pitch 0.65mm, IPC Medium Density)
footprint TI-PW16_L (TSOP, 16-Leads, Body 5x4.4mm, Pitch 0.65mm, IPC High Density)
footprint TI-PW16_M (TSOP, 16-Leads, Body 5x4.4mm, Pitch 0.65mm, IPC Low Density)
pins: 1 ~{EN} (in), 2 C1+, 3 V+ (power), 4 C1-, 5 C2+, 6 C2-, 7 V- (power), 8 RIN (in), 9 ROUT (hiz), 10 ~{INVALID} (out), 11 DIN (in), 12 FORCEON (in), 13 DOUT (hiz), 14 GND (power), 15 VCC (power), 16 ~{FORCEOFF} (in)

## SN65C3221IPWRG4Q1
designator U?
3-V to 5.5-V Single-Channel RS-232 Compatible Line Driver / Receiver, -40 to 85 degC, 16-Pin TSSOP (PW), Green (RoHS & no Sb/Br); Drivers Per Package: 1; Supply Voltage(s)(V): 3.3 or 5.0; ESD HBM(kV): +/-15; Single Supply: TRUE; DatasheetVersion: SLLS616B; PackageVersion: revG, Feb-2011; PackageReference: PW16; PackageDescription: 16-Pin Plastic Thin Small Outline Package 5 x 4.4 mm Body ,0.65 mm Pitch; SubFamily: RS-232; Receivers Per Package: 1; ICC(Max)(mA): 1; RS-232: TRUE; ComponentLink1Description: Manufacturer URL; ComponentLink1URL: www.ti.com; ComponentLink2Description: Datasheet; ComponentLink2URL: http://www.ti.com/general/docs/lit/getliterature.tsp?genericPartNumber=SN65C3221-Q1&fileType=pdf; ComponentLink3Description: Package Specification; ComponentLink3URL: http://www.ti.com/litv/pdf/mpds361
footprint TI-PW16_N (TSOP, 16-Leads, Body 5x4.4mm, Pitch 0.65mm, IPC Medium Density)
footprint TI-PW16_L (TSOP, 16-Leads, Body 5x4.4mm, Pitch 0.65mm, IPC High Density)
footprint TI-PW16_M (TSOP, 16-Leads, Body 5x4.4mm, Pitch 0.65mm, IPC Low Density)
pins: 1 ~{EN} (in), 2 C1+, 3 V+ (power), 4 C1-, 5 C2+, 6 C2-, 7 V- (power), 8 RIN (in), 9 ROUT (hiz), 10 ~{INVALID} (out), 11 DIN (in), 12 FORCEON (in), 13 DOUT (hiz), 14 GND (power), 15 VCC (power), 16 ~{FORCEOFF} (in)

## SN65C3221IPWRQ1
designator U?
3-V to 5.5-V Single-Channel RS-232 Compatible Line Driver / Receiver, -40 to 85 degC, 16-Pin TSSOP (PW), Green (RoHS & no Sb/Br); Drivers Per Package: 1; Supply Voltage(s)(V): 3.3 or 5.0; ESD HBM(kV): +/-15; Single Supply: TRUE; DatasheetVersion: SLLS616B; PackageVersion: revG, Feb-2011; PackageReference: PW16; PackageDescription: 16-Pin Plastic Thin Small Outline Package 5 x 4.4 mm Body ,0.65 mm Pitch; SubFamily: RS-232; Receivers Per Package: 1; ICC(Max)(mA): 1; RS-232: TRUE; ComponentLink1Description: Manufacturer URL; ComponentLink1URL: www.ti.com; ComponentLink2Description: Datasheet; ComponentLink2URL: http://www.ti.com/general/docs/lit/getliterature.tsp?genericPartNumber=SN65C3221-Q1&fileType=pdf; ComponentLink3Description: Package Specification; ComponentLink3URL: http://www.ti.com/litv/pdf/mpds361
footprint TI-PW16_N (TSOP, 16-Leads, Body 5x4.4mm, Pitch 0.65mm, IPC Medium Density)
footprint TI-PW16_L (TSOP, 16-Leads, Body 5x4.4mm, Pitch 0.65mm, IPC High Density)
footprint TI-PW16_M (TSOP, 16-Leads, Body 5x4.4mm, Pitch 0.65mm, IPC Low Density)
pins: 1 ~{EN} (in), 2 C1+, 3 V+ (power), 4 C1-, 5 C2+, 6 C2-, 7 V- (power), 8 RIN (in), 9 ROUT (hiz), 10 ~{INVALID} (out), 11 DIN (in), 12 FORCEON (in), 13 DOUT (hiz), 14 GND (power), 15 VCC (power), 16 ~{FORCEOFF} (in)

## SN65C3221PW
designator U?
3-V to 5.5-V Single-Channel RS-232 Compatible Line Driver / Receiver, -40 to 85 degC, 16-Pin TSSOP (PW), Green (RoHS & no Sb/Br); Drivers Per Package: 1; Supply Voltage(s)(V): 3.3 or 5.0; ESD HBM(kV): +/-15; Single Supply: TRUE; DatasheetVersion: SLLS351E; PackageVersion: revG, Feb-2011; PackageReference: PW16; PackageDescription: 16-Pin Plastic Thin Small Outline Package 5 x 4.4 mm Body ,0.65 mm Pitch; SubFamily: RS-232; Receivers Per Package: 1; ICC(Max)(mA): 1; RS-232: TRUE; ComponentLink1Description: Manufacturer URL; ComponentLink1URL: www.ti.com; ComponentLink2Description: Datasheet; ComponentLink2URL: http://www.ti.com/general/docs/lit/getliterature.tsp?genericPartNumber=SN65C3221&fileType=pdf; ComponentLink3Description: Package Specification; ComponentLink3URL: http://www.ti.com/litv/pdf/mpds361
footprint TI-PW16_N (TSOP, 16-Leads, Body 5x4.4mm, Pitch 0.65mm, IPC Medium Density)
footprint TI-PW16_L (TSOP, 16-Leads, Body 5x4.4mm, Pitch 0.65mm, IPC High Density)
footprint TI-PW16_M (TSOP, 16-Leads, Body 5x4.4mm, Pitch 0.65mm, IPC Low Density)
pins: 1 ~{EN} (in), 2 C1+, 3 V+ (power), 4 C1-, 5 C2+, 6 C2-, 7 V- (power), 8 RIN (in), 9 ROUT (hiz), 10 ~{INVALID} (out), 11 DIN (in), 12 FORCEON (in), 13 DOUT (hiz), 14 GND (power), 15 VCC (power), 16 ~{FORCEOFF} (in)